# EAGLE library part USB2.0 (library Cynara-Connectors)
WR-COM Horizontal USB Type B=>Code : Con_I-O_COM_USB-2.0_B_61400416121 <http://katalog.we-online.de/media/images/eican/Con_I-O_COM_USB-2.0_B_61400416121_pf2.jpg> Details see: http://katalog.we-online.de/en/em/614_004_161_21 Created 2014-07-09, Karrer Zheng 2014 (C) Würth Elektronik
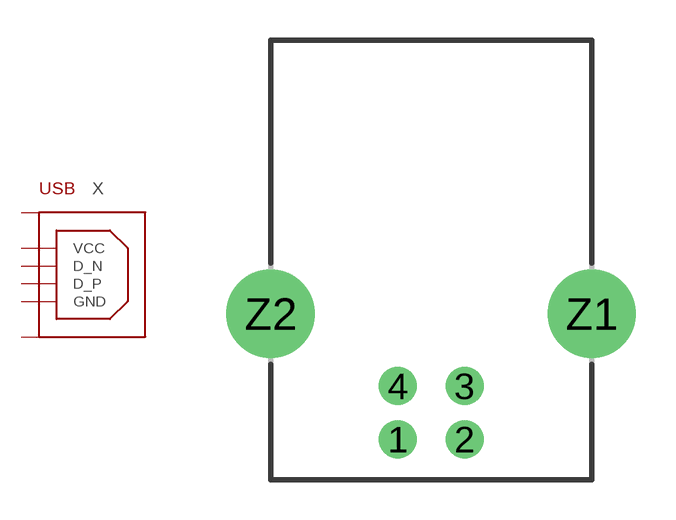
[diagram p18: symbol with the pads of 61400416121; footprint 61400416121]

Designator prefix X

## USB2.0-TYPE-B (MANUFACTURER: Wurth; MANUFACTURERPARTNO: 61400416121; ORDERCODE: 61400416121; SUPPLIER: Wurth)  [61400416121]
1  VCC  pas
2  D_N  pas
3  D_P  pas
4  GND  pas
Z1  GND
Z2  GND

## Footprint 61400416121 (pad centres in mm)
WR-COM Horizontal USB Type B
drill 0.92: 1 -1.25,-4.71; 2 1.25,-4.71; 3 1.25,-2.71; 4 -1.25,-2.71
drill 2.3: Z1 6.02,0; Z2 -6.02,0